# Altium footprint library 21-Transistor.PcbLib: 90 footprints (part 6 of 6)
Each footprint in its own frame and in the unit in brackets; x right, y up, seen from the top. Pads: shape width x height; smd on the part's side, far side on the other; paste and mask are expansions set on the pad; w line width, h text height; cw(c..) or ccw(c..) is an arc to the next point about the centre after c.
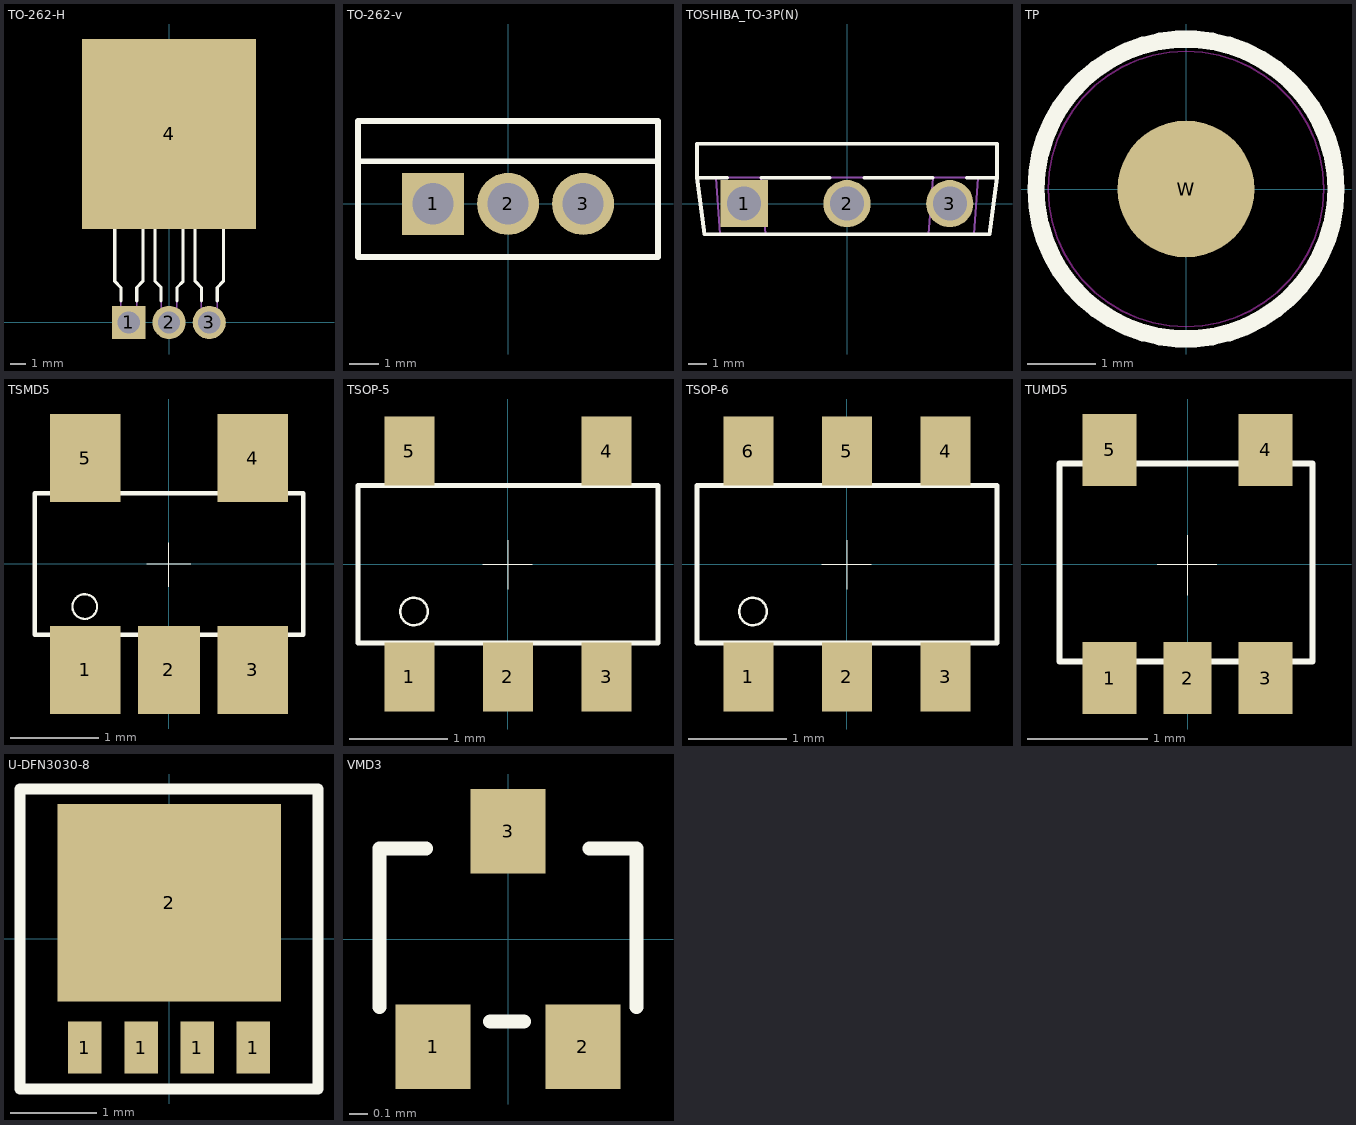
[diagram p5: the footprints below, top view; thin cyan lines are the x and y axes]

## TO-262-H [mm] "TO-262 3-Terminal + Tab - Horizontal Mount"
height 4.83
pads (4):
  rect 2.1x2.1 hole 1.4: 1(-2.54,0)
  round 2.1 hole 1.4: 2(0,0) 3(2.54,0)
  rect 11x12 smd paste-5.5: 4(-0.002,11.898)
Top Overlay:
  lines w0.2: -5.083,15.815 5.077,15.815 ; -3.43,6.3 -3.43,2.59 -3.04,2.2 -3.04,1.361 ; -2.04,1.361 -2.04,2.2 -1.65,2.59 -1.65,6.3 ; -0.89,6.3 -0.89,2.59 -0.5,2.2 -0.5,1.361 ; 0.5,1.361 0.5,2.2 0.89,2.59 0.89,6.3 ; 1.65,6.3 1.65,2.59 2.04,2.2 2.04,1.361 ; 3.04,1.361 3.04,2.2 3.43,2.59 3.43,6.3 ; -5.083,6.3 5.077,6.3 5.077,16.86 3.333,17.495 -3.338,17.495 -5.083,16.86 -5.083,6.3
Mechanical 8:
  lines w0.1: -3.04,0 -2.54,0 ; -2.54,-0.5 -2.54,0 ; -2.54,0.5 -2.54,0 ; -2.04,0 -2.54,0 ; -0.5,0 0,0 ; 0,-0.5 0,0 ; 0,0.5 0,0 ; 0.5,0 0,0 ; 2.04,0 2.54,0 ; 2.54,-0.5 2.54,0 ; 2.54,0.5 2.54,0 ; 3.04,0 2.54,0
  text "No Paste" at -3.725,13 h1
  text "Mask on" at -3.5,11.425 h1
  text "This Pad" at -3.8,9.75 h1
Mechanical 13:
  lines w0.2: -5.083,6.7 -5.083,6.3 -4.5,6.3
Mechanical 14:
  lines w0.1: -5.083,15.815 5.077,15.815 ; -3.43,6.3 -3.43,2.59 -3.04,2.2 -3.04,-0.25 -2.04,-0.25 -2.04,2.2 -1.65,2.59 -1.65,6.3 ; -0.89,6.3 -0.89,2.59 -0.5,2.2 -0.5,-0.25 0.5,-0.25 0.5,2.2 0.89,2.59 0.89,6.3 ; 1.65,6.3 1.65,2.59 2.04,2.2 2.04,-0.25 3.04,-0.25 3.04,2.2 3.43,2.59 3.43,6.3 ; -5.083,6.3 5.077,6.3 5.077,16.86 3.333,17.495 -3.338,17.495 -5.083,16.86 -5.083,6.3
3D body "TO-262-H.stp": height 4.6, standoff -3.6, extent -5.082,-0.25 5.078,17.495

## TO-262-v [mm] "TO-262 3-Terminal - Vertical Mount"
height 15.01
pads (3):
  rect 2.1x2.1 hole 1.4: 1(-2.54,0)
  round 2.1 hole 1.4: 2(0,0) 3(2.54,0)
Top Overlay:
  lines w0.2: -5.082,1.445 5.078,1.445 ; -5.082,-1.795 -5.082,2.805 5.078,2.805 5.078,-1.795 -5.082,-1.795
Mechanical 8:
  lines w0.1: -3.04,0 -2.54,0 ; -2.54,-0.5 -2.54,0 ; -2.54,0.5 -2.54,0 ; -2.04,0 -2.54,0 ; -0.5,0 0,0 ; 0,-0.5 0,0 ; 0,0.5 0,0 ; 0.5,0 0,0 ; 2.04,0 2.54,0 ; 2.54,-0.5 2.54,0 ; 2.54,0.5 2.54,0 ; 3.04,0 2.54,0
Mechanical 14:
  lines w0.1: -5.082,1.445 5.078,1.445 ; -5.082,-1.795 -5.082,2.805 5.078,2.805 5.078,-1.795 -5.082,-1.795
3D body "TO-262-V.stp": height 15.3, standoff -3.6, extent -5.082,-1.795 5.078,2.805

## TOSHIBA_TO-3P(N) [mm] "TOSHIBA TO-3P(N) 3-Terminal - Vertical Mount"
height 25.5
pads (3):
  rect 2.5x2.5 hole 1.8: 1(-5.45,0)
  round 2.5 hole 1.8: 2(0,0) 3(5.45,0)
Top Overlay:
  lines w0.2: -6.362,1.375 -7.95,1.375 ; -4.538,1.375 -0.912,1.375 ; 0.912,1.375 4.538,1.375 ; 6.362,1.375 7.95,1.375 ; -7.95,1.375 -7.55,-1.625 0,-1.625 7.55,-1.625 7.95,1.375 ; -7.95,1.375 -7.95,3.175 0,3.175 7.95,3.175 7.95,1.375
Mechanical 8:
  lines w0.1: -6.45,0 -5.45,0 ; -5.45,-1 -5.45,0 ; -5.45,1 -5.45,0 ; -4.45,0 -5.45,0 ; -1,0 0,0 ; 0,-1 0,0 ; 0,1 0,0 ; 1,0 0,0 ; 4.45,0 5.45,0 ; 5.45,-1 5.45,0 ; 5.45,1 5.45,0 ; 6.45,0 5.45,0
Mechanical 14:
  lines w0.1: -6.95,1.375 -6.724,-1.625 ; -4.55,1.375 -4.324,-1.625 ; 4.324,-1.625 4.55,1.375 ; 6.724,-1.625 6.95,1.375 ; -7.95,1.375 0,1.375 7.95,1.375 ; -7.95,1.375 -7.55,-1.625 0,-1.625 7.55,-1.625 7.95,1.375 ; -7.95,1.375 -7.95,3.175 0,3.175 7.95,3.175 7.95,1.375
3D body "TOSHIBA_TO-3P(N)_v.stp": height 25.5, standoff -3.8, extent -7.95,-1.625 7.95,3.175

## TP [mm]
height 11.7
pads (1):
  round 2 smd mask+1: W(0,0)
Top Overlay:
  circle w0.254: c0,0 r2.195
Keep-Out Layer:
  circle w0.025: c0,0 r2.017
3D body "1_016-1_016-3_tp.stp": height 0.02, standoff 0, extent -1.5,-1.5 1.5,1.5

## TSMD5 [mm]
height 25.5
pads (5):
  rect 0.8x1 smd mask+0.051: 1(-0.95,-1.2) 3(0.95,-1.2) 4(0.95,1.2) 5(-0.95,1.2)
  rect 0.7x1 smd mask+0.051: 2(0,-1.2)
Top Overlay:
  circle w0.025: c-0.955,-0.483 r0.14
  lines w0.001: -0.254,0 0.244,0 ; 0,-0.259 0,0.239
  lines w0.025: -1.161,0.813 -1.161,1.407 -0.757,1.407 -0.757,0.813 ; -1.161,1.049 -0.757,1.049 ; -1.158,-1.041 -0.754,-1.041 ; -1.158,-0.805 -1.158,-1.4 -0.754,-1.4 -0.754,-0.805 ; -0.203,-1.041 0.201,-1.041 ; -0.203,-0.805 -0.203,-1.4 0.201,-1.4 0.201,-0.805 ; 0.747,-1.041 1.151,-1.041 ; 0.747,-0.805 0.747,-1.4 1.151,-1.4 1.151,-0.805 ; 0.747,0.81 0.747,1.405 1.151,1.405 1.151,0.81 ; 0.747,1.046 1.151,1.046
  lines w0.051: -1.524,-0.8 1.524,-0.8 1.524,0.8 -1.524,0.8 -1.524,-0.8
3D body "sot23-5.stp": height 1.1, standoff -0.01, extent -1.55,-1.501 1.55,1.473

## TSOP-5 [mil]
height 1003.94
pads (5):
  rect 20x27.52 smd mask+2: 1(-39.41,-45.18) 2(0,-45.18) 3(39.41,-45.18) 4(39.41,45.18) 5(-39.41,45.18)
Top Overlay:
  circle w1: c-37.6,-19 r5.5
  lines w0.02: -10,0 9.61,0 ; 0,-10.2 0,9.41
  lines w1: -47.44,32.02 -47.44,55.42 -31.62,55.42 -31.62,32.02 ; -47.44,41.32 -31.69,41.32 ; -47.19,-31.59 -47.19,-54.99 -31.38,-54.99 -31.38,-31.59 ; -47,-40.89 -31.38,-40.89 ; -8.12,-31.65 -8.12,-55.05 7.69,-55.05 7.69,-31.65 ; -7.94,-40.95 7.69,-40.95 ; 31.38,-31.77 31.38,-55.17 47.19,-55.17 47.19,-31.77 ; 31.56,-41.07 47.19,-41.07 ; 31.56,31.9 31.56,55.3 47.38,55.3 47.38,31.9 ; 31.56,41.2 47.19,41.2
  lines w2: -60,-31.5 60,-31.5 60,31.5 -60,31.5 -60,-31.5
3D body "tsop-5.stp": height 35.83, standoff 0, extent -58.14,-54.13 58,54.13

## TSOP-6 [mil]
height 1003.94
pads (6):
  rect 20x27.52 smd mask+2: 1(-39.41,-45.18) 2(0,-45.18) 3(39.41,-45.18) 4(39.41,45.18) 5(0,45.18) 6(-39.41,45.18)
Top Overlay:
  circle w1: c-37.6,-19 r5.5
  lines w0.02: -10,0 9.61,0 ; 0,-10.2 0,9.41
  lines w1: -47.44,32.02 -47.44,55.42 -31.62,55.42 -31.62,32.02 ; -47.44,41.32 -31.69,41.32 ; -47.19,-31.59 -47.19,-54.99 -31.38,-54.99 -31.38,-31.59 ; -47,-40.89 -31.38,-40.89 ; -8.12,-31.65 -8.12,-55.05 7.69,-55.05 7.69,-31.65 ; -8.12,31.96 -8.12,55.36 7.69,55.36 7.69,31.96 ; -8.12,41.26 7.56,41.26 ; -7.94,-40.95 7.69,-40.95 ; 31.38,-31.77 31.38,-55.17 47.19,-55.17 47.19,-31.77 ; 31.56,-41.07 47.19,-41.07 ; 31.56,31.9 31.56,55.3 47.38,55.3 47.38,31.9 ; 31.56,41.2 47.19,41.2
  lines w2: -60,-31.5 60,-31.5 60,31.5 -60,31.5 -60,-31.5
3D body "tsop-6.stp": height 35.83, standoff 0, extent -58,-54 58.14,54.27

## TUMD5 [mm]
height 25.5
pads (5):
  rect 0.45x0.6 smd mask+0.051: 1(-0.65,-0.95) 3(0.65,-0.95) 4(0.65,0.95) 5(-0.65,0.95)
  rect 0.4x0.6 smd mask+0.051: 2(0,-0.95)
Top Overlay:
  lines w0.001: -0.254,0 0.244,0 ; 0,-0.259 0,0.239
  lines w0.025: -0.813,0.831 -0.813,1.143 -0.493,1.143 -0.493,0.831 ; -0.803,-0.805 -0.803,-1.118 -0.483,-1.118 -0.483,-0.805 ; -0.168,-0.805 -0.168,-1.118 0.152,-1.118 0.152,-0.805 ; 0.483,0.831 0.483,1.143 0.803,1.143 0.803,0.831 ; 0.493,-0.805 0.493,-1.118 0.813,-1.118 0.813,-0.805
  lines w0.051: -1.067,-0.813 -1.067,0.838 1.041,0.838 1.041,-0.813 -1.067,-0.813
3D body "tumd5.stp": height 0.85, standoff 0, extent -1.016,-1.05 0.984,1.05

## U-DFN3030-8 [mm]
height 25.5
pads (5):
  rect 0.39x0.6 smd mask+0.07: 1(-0.976,-1.259) 1(-0.324,-1.259) 1(0.326,-1.259) 1(0.976,-1.259)
  rect 2.59x2.29 smd: 2(0.001,0.421)
Top Overlay:
  lines w0.127: -1.727,-1.74 -1.727,1.74 1.727,1.74 1.727,-1.74 -1.727,-1.74
3D body "xm5152.stp": height 0.75, standoff 0, extent -1.5,-1.51 1.5,1.51

## VMD3 [mm]
height 25.5
pads (3):
  rect 0.4x0.45 smd mask+0.051: 1(-0.4,-0.575) 2(0.4,-0.575) 3(0,0.575)
Top Overlay:
  lines w0.076: -0.686,-0.363 -0.686,0.483 -0.437,0.483 ; -0.094,-0.44 0.084,-0.44 ; 0.434,0.483 0.686,0.483 0.686,-0.363
3D body "vmd3.stp": height 0.5, standoff 0, extent -0.6,-0.584 0.6,0.617